# EAGLE library part EURORACK-POWER (library !synth_sch)
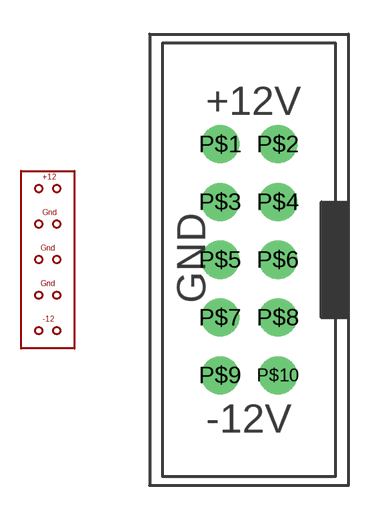
[diagram p1: symbol with the pads of EURORACK-POWER; footprint EURORACK-POWER]

Designator prefix -

## EURORACK-POWER  [EURORACK-POWER]
P$1  P$1
P$2  P$2
P$3  P$3
P$4  P$4
P$5  P$5
P$6  P$6
P$7  P$7
P$8  P$8
P$9  P$9
P$10  P$10

## Footprint EURORACK-POWER (pad centres in mm)
drill 0.8 pad 1.676: P$1 -1.27,5.08; P$2 1.27,5.08; P$3 -1.27,2.54; P$4 1.27,2.54; P$5 -1.27,0; P$6 1.27,0; P$7 -1.27,-2.54; P$8 1.27,-2.54; P$9 -1.27,-5.08; P$10 1.27,-5.08